# Altium footprint library CLIK_Mate2.0.PcbLib: 5 footprints
Each footprint in its own frame and in the unit in brackets; x right, y up, seen from the top. Pads: shape width x height; smd on the part's side, far side on the other; paste and mask are expansions set on the pad; w line width, h text height; cw(c..) or ccw(c..) is an arc to the next point about the centre after c.
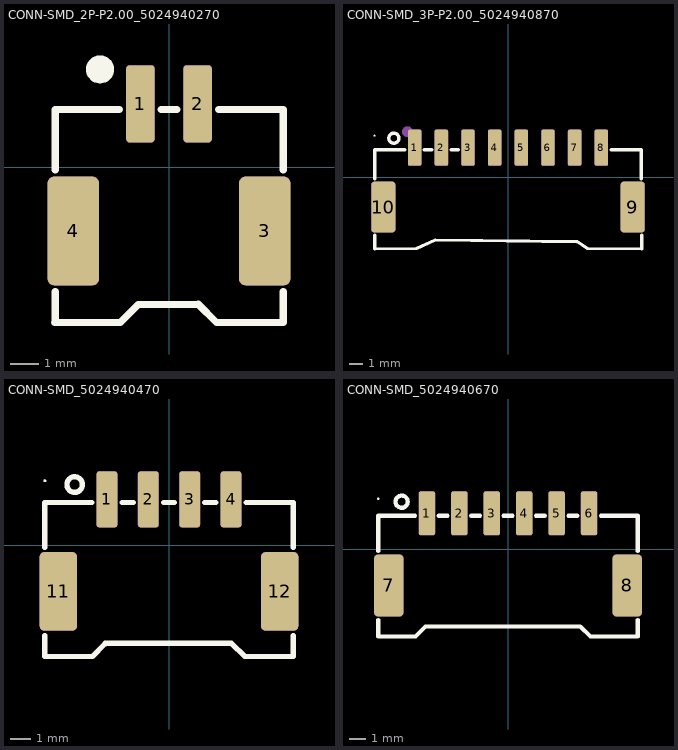
[diagram p0: the footprints below, top view; thin cyan lines are the x and y axes]

## CONN-SMD_2P-P2.00_5024940270 [mm] "卧贴"
height -909.212
pads (4):
  rrect25% 1x2.7 smd mask+0.05: 1(-1,2.225) 2(1,2.225)
  rrect25% 1.8x3.8 smd mask+0.05: 3(3.35,-2.225) 4(-3.35,-2.225)
Top Overlay:
  region: -2.899,3.429 -2.893,3.509 -2.873,3.587 -2.841,3.66 -2.797,3.728 -2.742,3.787 -2.679,3.836 -2.608,3.874 -2.532,3.9 -2.453,3.914 -2.373,3.914 -2.294,3.9 -2.218,3.874 -2.147,3.836 -2.084,3.787 -2.029,3.728 -1.985,3.66 -1.953,3.587 -1.933,3.509 -1.927,3.429 -1.933,3.349 -1.953,3.271 -1.985,3.198 -2.029,3.13 -2.084,3.071 -2.147,3.022 -2.218,2.984 -2.294,2.958 -2.373,2.944 -2.453,2.944 -2.532,2.958 -2.608,2.984 -2.679,3.022 -2.742,3.071 -2.797,3.13 -2.841,3.198 -2.873,3.271 -2.893,3.349
  lines w0.254: -4,-5.425 -1.705,-5.425 -1.08,-4.8 1.025,-4.8 ; -3.98,-5.425 -3.98,-4.356 ; -3.98,-0.094 -3.98,2.025 -1.731,2.025 ; -0.269,2.025 0.269,2.025 ; 1.025,-4.785 1.665,-5.425 4,-5.425 4,-4.356 ; 1.731,2.025 4,2.025 4,-0.094
Mechanical 9:
  drawing of 4 lines, arcs and shapes, not listed
3D body "CONN-SMD_2P-P2.00_5024940270.step": height 1, standoff 0, extent -4.25,-5.425 4.25,3.914

## CONN-SMD_3P-P2.00_5024940870 [mm] "卧贴"
height -909.212
pads (10):
  rrect25% 1x2.7 smd mask+0.05: 1(-7,2.225) 2(-5,2.225) 3(-3,2.225) 4(-1,2.225) 5(1,2.225) 6(3,2.225) 7(5,2.225) 8(7,2.225)
  rrect25% 1.8x3.8 smd mask+0.05: 9(9.35,-2.225) 10(-9.35,-2.225)
Top Overlay:
  circle w0.254: c-8.56,2.94 r0.376
  region: -9.94,3.125 -9.941,3.137 -9.945,3.148 -9.95,3.158 -9.958,3.167 -9.967,3.175 -9.977,3.18 -9.988,3.184 -10,3.185 -10.012,3.184 -10.023,3.18 -10.033,3.175 -10.042,3.167 -10.05,3.158 -10.055,3.148 -10.059,3.137 -10.06,3.125 -10.059,3.113 -10.055,3.102 -10.05,3.092 -10.042,3.083 -10.033,3.075 -10.023,3.07 -10.012,3.066 -10,3.065 -9.988,3.066 -9.977,3.07 -9.967,3.075 -9.958,3.083 -9.95,3.092 -9.945,3.102 -9.941,3.113
  lines w0.254: -10,-0.094 -10,2.075 ; -9.999,-4.355 -9.999,-5.374 -6.858,-5.334 -5.461,-4.699 5.207,-4.826 5.969,-5.334 10.034,-5.374 10.034,-4.355 ; -9.98,2.075 -7.731,2.075 ; -6.269,2.075 -5.731,2.075 ; -4.269,2.075 -3.731,2.075 ; 7.731,2.075 10,2.075 10,-0.094
Mechanical 2:
  circle w0.4: c-7.54,3.429 r0.2
Mechanical 9:
  drawing of 10 lines, arcs and shapes, not listed
3D body "CONN-SMD_3P-P2.00_5024940870.step": height 1, standoff 0, extent -10,-5.375 10,2.075

## CONN-SMD_5024940470 [mm] "卧贴"
height -909.212
pads (6):
  rrect25% 1x2.7 smd mask+0.05: 1(-3,2.225) 2(-1,2.225) 3(1,2.225) 4(3,2.225)
  rrect25% 1.8x3.8 smd mask+0.05: 11(-5.35,-2.225) 12(5.35,-2.225)
Top Overlay:
  circle w0.254: c-4.56,2.94 r0.376
  region: -5.94,3.125 -5.941,3.137 -5.945,3.148 -5.95,3.158 -5.958,3.167 -5.967,3.175 -5.977,3.18 -5.988,3.184 -6,3.185 -6.012,3.184 -6.023,3.18 -6.033,3.175 -6.042,3.167 -6.05,3.158 -6.055,3.148 -6.059,3.137 -6.06,3.125 -6.059,3.113 -6.055,3.102 -6.05,3.092 -6.042,3.083 -6.033,3.075 -6.023,3.07 -6.012,3.066 -6,3.065 -5.988,3.066 -5.977,3.07 -5.967,3.075 -5.958,3.083 -5.95,3.092 -5.945,3.102 -5.941,3.113
  lines w0.254: -6,-4.356 -6,-5.375 -3.705,-5.375 -3.08,-4.75 ; -6,-0.094 -6,2.075 ; -5.98,2.075 -3.731,2.075 ; -3.08,-4.735 3.025,-4.735 3.665,-5.375 6,-5.375 6,-4.356 ; -2.269,2.075 -1.731,2.075 ; -0.269,2.075 0.269,2.075 ; 1.731,2.075 2.269,2.075 ; 3.731,2.075 6,2.075 6,-0.094
Mechanical 2:
  circle w0.4: c-2.885,3.155 r0.2
Mechanical 9:
  drawing of 6 lines, arcs and shapes, not listed

## CONN-SMD_5024940670 [mm] "卧贴"
height -909.212
pads (8):
  rrect25% 1x2.7 smd mask+0.05: 1(-5,2.225) 2(-3,2.225) 3(-1,2.225) 4(1,2.225) 5(3,2.225) 6(5,2.225)
  rrect25% 1.8x3.8 smd mask+0.05: 7(-7.35,-2.225) 8(7.35,-2.225)
Top Overlay:
  circle w0.254: c-6.56,2.94 r0.376
  region: -7.94,3.125 -7.941,3.137 -7.945,3.148 -7.95,3.158 -7.958,3.167 -7.967,3.175 -7.977,3.18 -7.988,3.184 -8,3.185 -8.012,3.184 -8.023,3.18 -8.033,3.175 -8.042,3.167 -8.05,3.158 -8.055,3.148 -8.059,3.137 -8.06,3.125 -8.059,3.113 -8.055,3.102 -8.05,3.092 -8.042,3.083 -8.033,3.075 -8.023,3.07 -8.012,3.066 -8,3.065 -7.988,3.066 -7.977,3.07 -7.967,3.075 -7.958,3.083 -7.95,3.092 -7.945,3.102 -7.941,3.113
  lines w0.254: -8,-4.356 -8,-5.375 -5.705,-5.375 -5.08,-4.75 4.455,-4.75 5.08,-5.375 8,-5.375 8,-4.356 ; -8,-0.094 -8,2.075 ; -7.98,2.075 -5.731,2.075 ; -4.269,2.075 -3.731,2.075 ; -2.269,2.075 -1.731,2.075 ; -0.269,2.075 0.269,2.075 ; 1.731,2.075 2.269,2.075 ; 3.731,2.075 4.269,2.075 ; 5.731,2.075 8,2.075 8,-0.094
Mechanical 2:
  circle w0.4: c-4.885,3.155 r0.2
Mechanical 9:
  drawing of 8 lines, arcs and shapes, not listed

## PCBComponent_1 [mm]